# EAGLE library part XCR3128XL (library toyotune)
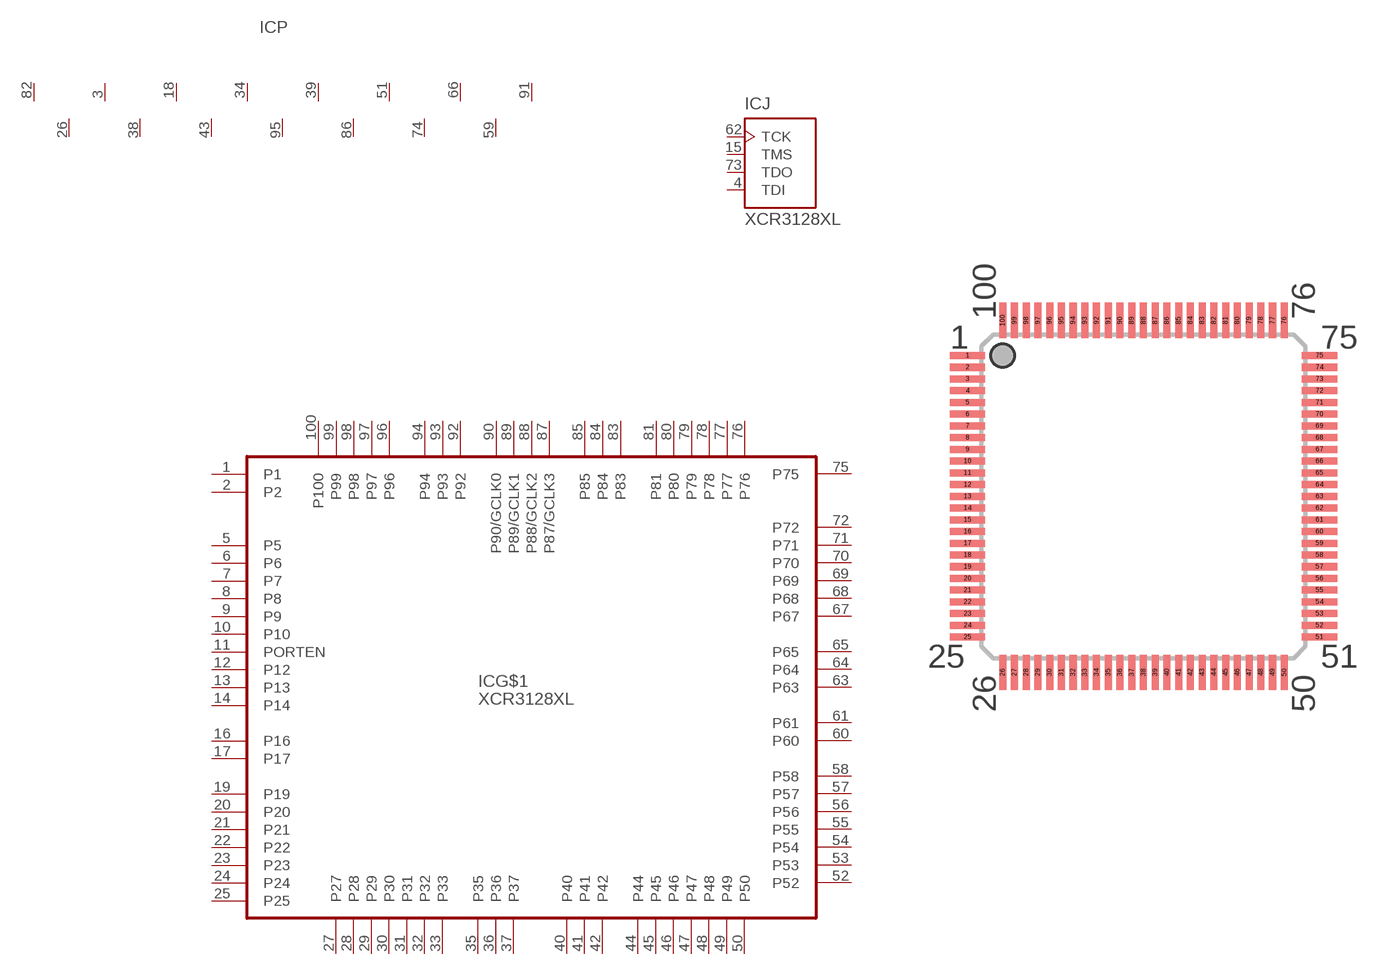
[diagram p9: symbol with the pads of VQ100; footprint VQ100]

Designator prefix IC; gates P=PWR15 G$1=XCR3128XL-VQ100 J=JTAG

## XCR3128XL  [VQ100]
1  G$1:P1
2  G$1:P2
3  P:VCC_3V3  pwr
4  J:TDI  in
5  G$1:P5
6  G$1:P6
7  G$1:P7
8  G$1:P8
9  G$1:P9
10  G$1:P10
11  G$1:PORTEN
12  G$1:P12
13  G$1:P13
14  G$1:P14
15  J:TMS  in
16  G$1:P16
17  G$1:P17
18  P:VCC_3V3  pwr
19  G$1:P19
20  G$1:P20
21  G$1:P21
22  G$1:P22
23  G$1:P23
24  G$1:P24
25  G$1:P25
26  P:GND  pwr
27  G$1:P27
28  G$1:P28
29  G$1:P29
30  G$1:P30
31  G$1:P31
32  G$1:P32
33  G$1:P33
34  P:VCC_3V3  pwr
35  G$1:P35
36  G$1:P36
37  G$1:P37
38  P:GND  pwr
39  P:VCC_3V3  pwr
40  G$1:P40
41  G$1:P41
42  G$1:P42
43  P:GND  pwr
44  G$1:P44
45  G$1:P45
46  G$1:P46
47  G$1:P47
48  G$1:P48
49  G$1:P49
50  G$1:P50
51  P:VCC_3V3  pwr
52  G$1:P52
53  G$1:P53
54  G$1:P54
55  G$1:P55
56  G$1:P56
57  G$1:P57
58  G$1:P58
59  P:GND  pwr
60  G$1:P60
61  G$1:P61
62  J:TCK  in
63  G$1:P63
64  G$1:P64
65  G$1:P65
66  P:VCC_3V3  pwr
67  G$1:P67
68  G$1:P68
69  G$1:P69
70  G$1:P70
71  G$1:P71
72  G$1:P72
73  J:TDO  out
74  P:GND  pwr
75  G$1:P75
76  G$1:P76
77  G$1:P77
78  G$1:P78
79  G$1:P79
80  G$1:P80
81  G$1:P81
82  P:VCC_3V3  pwr
83  G$1:P83
84  G$1:P84
85  G$1:P85
86  P:GND  pwr
87  G$1:P87/GCLK3  in
88  G$1:P88/GCLK2  in
89  G$1:P89/GCLK1  in
90  G$1:P90/GCLK0  in
91  P:VCC_3V3  pwr
92  G$1:P92
93  G$1:P93
94  G$1:P94
95  P:GND  pwr
96  G$1:P96
97  G$1:P97
98  G$1:P98
99  G$1:P99
100  G$1:P100

## Footprint VQ100 (pad centres in mm)
smd 1.5 x 0.3: 1 -7.5,6; 2 -7.5,5.5; 3 -7.5,5; 4 -7.5,4.5; 5 -7.5,4; 6 -7.5,3.5; 7 -7.5,3; 8 -7.5,2.5; 9 -7.5,2; 10 -7.5,1.5; 11 -7.5,1; 12 -7.5,0.5; 13 -7.5,0; 14 -7.5,-0.5; 15 -7.5,-1; 16 -7.5,-1.5; 17 -7.5,-2; 18 -7.5,-2.5; 19 -7.5,-3; 20 -7.5,-3.5; 21 -7.5,-4; 22 -7.5,-4.5; 23 -7.5,-5; 24 -7.5,-5.5; 25 -7.5,-6; 51 7.5,-6; 52 7.5,-5.5; 53 7.5,-5; 54 7.5,-4.5; 55 7.5,-4; 56 7.5,-3.5; 57 7.5,-3; 58 7.5,-2.5; 59 7.5,-2; 60 7.5,-1.5; 61 7.5,-1; 62 7.5,-0.5; 63 7.5,0; 64 7.5,0.5; 65 7.5,1; 66 7.5,1.5; 67 7.5,2; 68 7.5,2.5; 69 7.5,3; 70 7.5,3.5; 71 7.5,4; 72 7.5,4.5; 73 7.5,5; 74 7.5,5.5; 75 7.5,6
smd 0.3 x 1.5: 26 -6,-7.5; 27 -5.5,-7.5; 28 -5,-7.5; 29 -4.5,-7.5; 30 -4,-7.5; 31 -3.5,-7.5; 32 -3,-7.5; 33 -2.5,-7.5; 34 -2,-7.5; 35 -1.5,-7.5; 36 -1,-7.5; 37 -0.5,-7.5; 38 0,-7.5; 39 0.5,-7.5; 40 1,-7.5; 41 1.5,-7.5; 42 2,-7.5; 43 2.5,-7.5; 44 3,-7.5; 45 3.5,-7.5; 46 4,-7.5; 47 4.5,-7.5; 48 5,-7.5; 49 5.5,-7.5; 50 6,-7.5; 76 6,7.5; 77 5.5,7.5; 78 5,7.5; 79 4.5,7.5; 80 4,7.5; 81 3.5,7.5; 82 3,7.5; 83 2.5,7.5; 84 2,7.5; 85 1.5,7.5; 86 1,7.5; 87 0.5,7.5; 88 0,7.5; 89 -0.5,7.5; 90 -1,7.5; 91 -1.5,7.5; 92 -2,7.5; 93 -2.5,7.5; 94 -3,7.5; 95 -3.5,7.5; 96 -4,7.5; 97 -4.5,7.5; 98 -5,7.5; 99 -5.5,7.5; 100 -6,7.5